# EAGLE library part 74X373 (library TinyNES_Library)
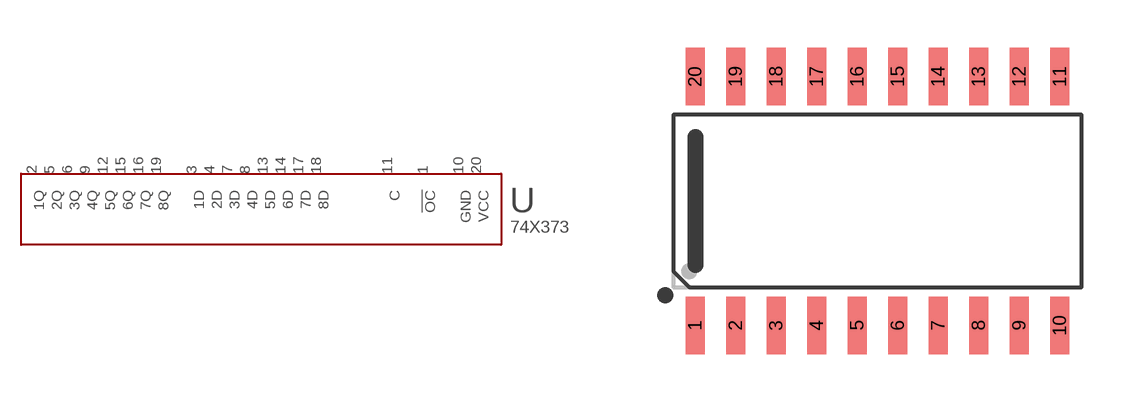
[diagram p3: symbol with the pads of SOIC-20; footprint SOIC-20]

Designator prefix U

## 74X373  [SOIC-20]
1  !OC
2  1Q
3  1D
4  2D
5  2Q
6  3Q
7  3D
8  4D
9  4Q
10  GND
11  C
12  5Q
13  5D
14  6D
15  6Q
16  7Q
17  7D
18  8D
19  8Q
20  VCC

## Footprint SOIC-20 (pad centres in mm)
smd 0.6 x 1.8: 1 -5.715,-3.9; 2 -4.445,-3.9; 3 -3.175,-3.9; 4 -1.905,-3.9; 5 -0.635,-3.9; 6 0.635,-3.9; 7 1.905,-3.9; 8 3.175,-3.9; 9 4.445,-3.9; 10 5.715,-3.9; 11 5.715,3.9; 12 4.445,3.9; 13 3.175,3.9; 14 1.905,3.9; 15 0.635,3.9; 16 -0.635,3.9; 17 -1.905,3.9; 18 -3.175,3.9; 19 -4.445,3.9; 20 -5.715,3.9